# Altium footprint library DiscreteSemiconductors.PcbLib: 21 footprints (part 2 of 2)
Each footprint in its own frame and in the unit in brackets; x right, y up, seen from the top. Pads: shape width x height; smd on the part's side, far side on the other; paste and mask are expansions set on the pad; w line width, h text height; cw(c..) or ccw(c..) is an arc to the next point about the centre after c.
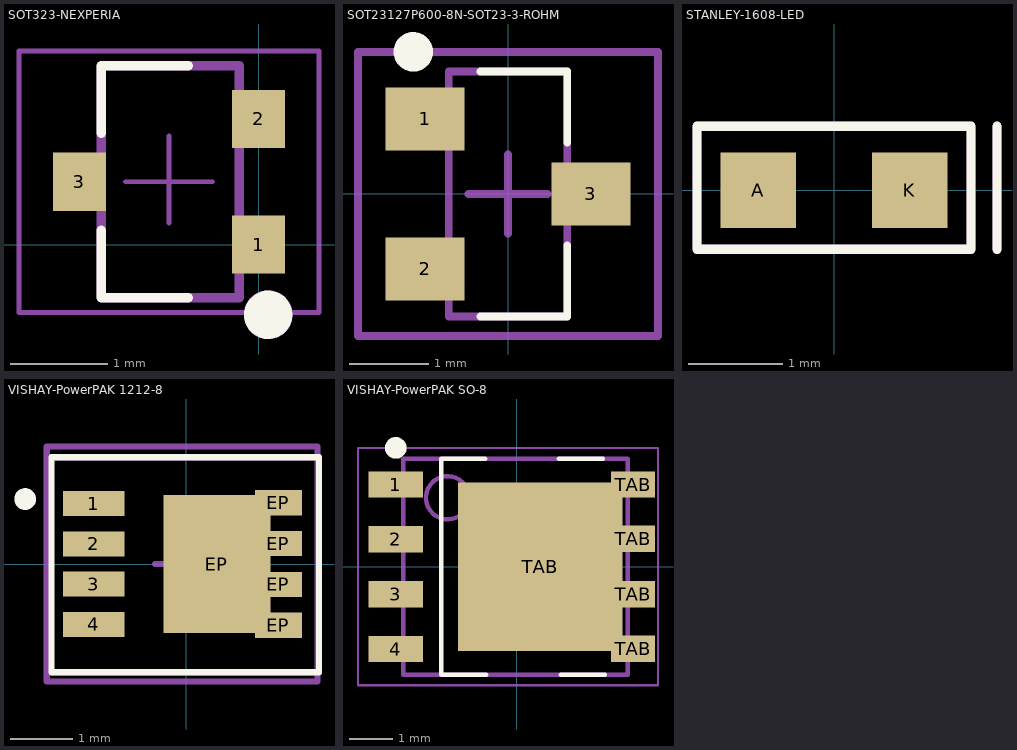
[diagram p1: the footprints below, top view; thin cyan lines are the x and y axes]

## SOT323-NEXPERIA [mm] "Based off BAT54AWF"
pads (3):
  rect 0.55x0.6 smd paste-0.05: 1(0,0) 2(0,1.3) 3(-1.85,0.65)
Top Overlay:
  circle w0.25: c0.1,-0.725 r0.125
  lines w0.1: -1.625,0.15 -1.625,-0.55 -0.725,-0.55 ; -1.625,1.15 -1.625,1.85 -0.725,1.85
Top Courtyard:
  lines w0.05: -1.375,0.65 -0.475,0.65 ; -0.925,0.225 -0.925,1.125 ; -2.475,-0.7 0.625,-0.7 0.625,2 -2.475,2 -2.475,-0.7
Top Assembly (Mech12):
  circle w0.254: c0.1,-0.725 r0.125
  lines w0.1: -1.625,-0.55 -0.2,-0.55 -0.2,1.85 -1.625,1.85 -1.625,-0.55
3D body "User Library-SOT323 (SC70-3)-1.STEP": height 1.1, standoff 0, extent -2.048,-0.45 0.198,1.75

## SOT23127P600-8N-SOT23-3-ROHM [mm]
height 1.15
pads (3):
  rect 1x0.8 smd: 1(-1.05,0.95) 2(-1.05,-0.95) 3(1.05,0)
Top Overlay:
  circle w0.25: c-1.2,1.8 r0.125
  lines w0.1: -0.35,-1.55 0.75,-1.55 0.75,-0.65 ; -0.35,1.55 0.75,1.55 0.75,0.65
Top Courtyard:
  lines w0.1: -0.5,0 0.5,0 ; 0,-0.5 0,0.5 ; -1.9,-1.8 1.9,-1.8 1.9,1.8 -1.9,1.8 -1.9,-1.8
Top Assembly (Mech12):
  circle w0.254: c-1.2,1.8 r0.112
  lines w0.1: -0.75,-1.55 0.75,-1.55 0.75,1.55 -0.75,1.55 -0.75,-1.55
3D body "SOT23127P600-8N-SOT23-3-ROHM.step": height 1.15, standoff 0, extent -1.3,-1.55 1.3,1.55

## STANLEY-1608-LED [mm]
pads (2):
  rect 0.8x0.8 smd: A(-0.8,0) K(0.8,0)
Top Overlay:
  lines w0.1: 1.725,-0.625 1.725,0.675 ; -1.45,-0.625 1.45,-0.625 1.45,0.675 -1.45,0.675 -1.45,-0.625
Top Courtyard:
  lines w0.05: -1.45,-0.65 1.45,-0.65 1.45,0.675 -1.45,0.675 -1.45,-0.65
Top Assembly (Mech12):
  lines w0.1: 1.725,-0.625 1.725,0.675 ; -1.45,-0.625 1.45,-0.625 1.45,0.675 -1.45,0.675 -1.45,-0.625
3D body "1C.stp": height 0.7, standoff 0, extent -0.85,-0.4 0.75,0.4

## VISHAY-PowerPAK 1212-8 [mm] "based off SQJ416EP-T1_GE3"
height 1.14
pads (9):
  rect 0.99x0.405 smd mask+0.07: 1(-1.492,0.975) 2(-1.492,0.325) 3(-1.492,-0.325) 4(-1.492,-0.975)
  rect 1.725x2.235 smd: EP(0.5,0)
  rect 0.76x0.406 smd: EP(1.493,-0.99) EP(1.493,-0.33) EP(1.493,0.33) EP(1.493,0.99)
Top Overlay:
  circle w0.25: c-2.6,1.05 r0.05
  lines w0.1: -2.175,-1.75 -2.175,1.725 2.15,1.725 2.15,-1.75 -2.175,-1.75
Top Solder:
  rectangle: 1.45,-0.725 1.975,0.825
Top Courtyard:
  lines w0.1: -0.5,0 0.5,0 ; 0,-0.5 0,0.5 ; -2.25,-1.9 -2.25,1.9 2.125,1.9 2.125,-1.9 -2.25,-1.9
Top Assembly (Mech12):
  circle w0.1: c-2.6,1.05 r0.1
  lines w0.1: -2.2,-1.75 2.15,-1.75 2.15,1.725 -2.2,1.725 -2.2,-1.75
3D body "User Library-PowerPAK 1212-8-1.STEP": height 1.04, standoff 0, extent -1.675,-1.65 1.625,1.65

## VISHAY-PowerPAK SO-8 [mm] "based off SIR668ADP-T1-RE3"
height 1.14
pads (9):
  rect 1.27x0.61 smd: 1(-2.8,1.905) 2(-2.8,0.635) 3(-2.8,-0.635) 4(-2.8,-1.905)
  rect 3.81x3.91 smd: TAB(0.55,0)
  rect 1.02x0.61 smd: TAB(2.7,-1.9) TAB(2.7,-0.635) TAB(2.7,0.65) TAB(2.7,1.905)
Top Overlay:
  circle w0.25: c-2.8,2.755 r0.125
  lines w0.1: -1.75,-2.5 -1.75,2.5 -0.725,2.5 ; -1.728,-2.499 -0.703,-2.499 ; 0.975,2.5 2,2.5 ; 1.022,-2.499 2.047,-2.499
Top Courtyard:
  lines w0.05: -3.675,-2.75 -3.675,2.75 ; -3.675,-2.745 3.275,-2.745 3.275,2.755 -3.675,2.755
  lines w0.1: -0.5,0 0.5,0 ; 0,-0.5 0,0.5
Top Assembly (Mech12):
  circle w0.1: c-1.6,1.6 r0.5
  lines w0.1: -2.625,-2.5 2.575,-2.5 2.575,2.5 -2.625,2.5 -2.625,-2.5
3D body "User Library-PowerPAK SO-8 (S).STEP": height 1.04, standoff 0, extent -3.25,-2.575 2.9,2.575